# EAGLE library part KONASHI1.0 (library konashi)
konashiは、スマホ・タブレット端末と連携するフィジカルコンピューティングのためのツールキットです。
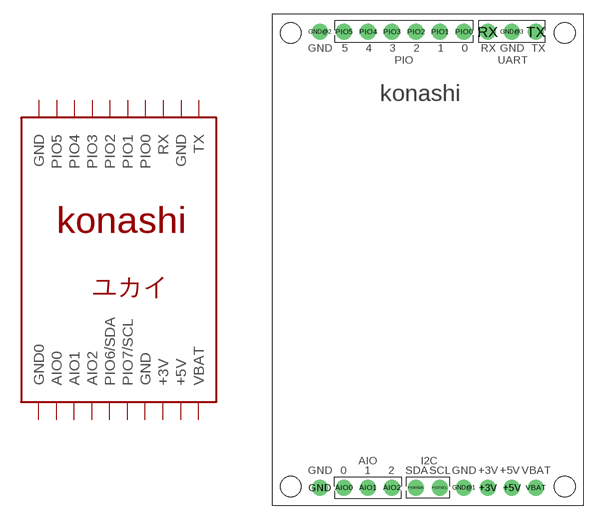
[diagram p0: symbol with the pads of KONASHI1.0; footprint KONASHI1.0]

Designator prefix -

## KONASHI1.0  [KONASHI1.0]
+3V  +3V  pwr
+5V  +5V  pwr
AIO0  AIO0
AIO1  AIO1
AIO2  AIO2
GND  GND0  pwr
GND@1  GND  pwr
GND@2  GND  pwr
GND@3  GND  pwr
PIO0  PIO0
PIO1  PIO1
PIO2  PIO2
PIO3  PIO3
PIO4  PIO4
PIO5  PIO5
PIO6/SDA  PIO6/SDA
PIO7/SCL  PIO7/SCL
RX  RX
TX  TX
VBAT  VBAT  pwr

## Footprint KONASHI1.0 (pad centres in mm)
konashiは、スマホ・タブレット端末と連携するフィジカルコンピューティングのためのツールキットです。
drill 1 pad 1.676: +3V 6.85,-24.13; +5V 9.39,-24.13; AIO0 -8.39,-24.13; AIO1 -5.85,-24.13; AIO2 -3.31,-24.13; GND -10.93,-24.13; GND@1 4.31,-24.13; GND@2 -10.93,24.13; GND@3 9.39,24.13; PIO0 4.31,24.13; PIO1 1.77,24.13; PIO2 -0.77,24.13; PIO3 -3.31,24.13; PIO4 -5.85,24.13; PIO5 -8.39,24.13; PIO6/SDA -0.77,-24.13; PIO7/SCL 1.77,-24.13; RX 6.85,24.13; TX 11.93,24.13; VBAT 11.93,-24.13
hole 2.2 at -14,24
hole 2.2 at 15,24
hole 2.2 at -14,-24
hole 2.2 at 15,-24